# Altium schematic symbol library FH12-20S-0P5SH55.SchLib: 2 symbols
Pins are listed as number, name and electrical type; pins without a type are passive.

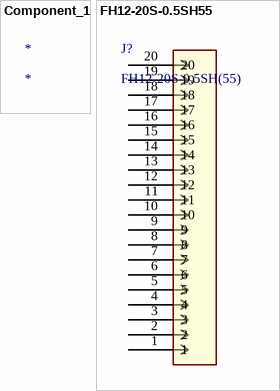
[diagram p0: symbols Component_1 to FH12-20S-0.5SH55]

## Component_1
designator *
footprint CONN20_FH12-20S_HIR

## FH12-20S-0.5SH55
designator J?, comment FH12-20S-0.5SH(55)
-40℃~+85℃ Clamshell 20P Bottom Contact Surface Mount，Right Angle 0.5mm SMD,P=0.5mm,Surface Mount，Right Angle FFC/FPC Connectors ROHS; Manufacturer: HRS(Hirose); Package: SMD,P=0.5mm,Surface Mount，Right Angle; Datasheet: https://datasheet.lcsc.com/lcsc/2102241735_HRS-Hirose-FH12-20S-0-5SH-55_C596730.pdf; Mfr. Part #: FH12-20S-0.5SH(55); LCSC Part #: C596730
footprint CONN20_FH12-20S_HIR
pins: 1, 2, 3, 4, 5, 6, 7, 8, 9, 10, 11, 12, 13, 14, 15, 16, 17, 18, 19, 20